# Altium footprint library S3B-XH-A(LF)(SN).PcbLib: 1 footprints
Each footprint in its own frame and in the unit in brackets; x right, y up, seen from the top. Pads: shape width x height; smd on the part's side, far side on the other; paste and mask are expansions set on the pad; w line width, h text height; cw(c..) or ccw(c..) is an arc to the next point about the centre after c.
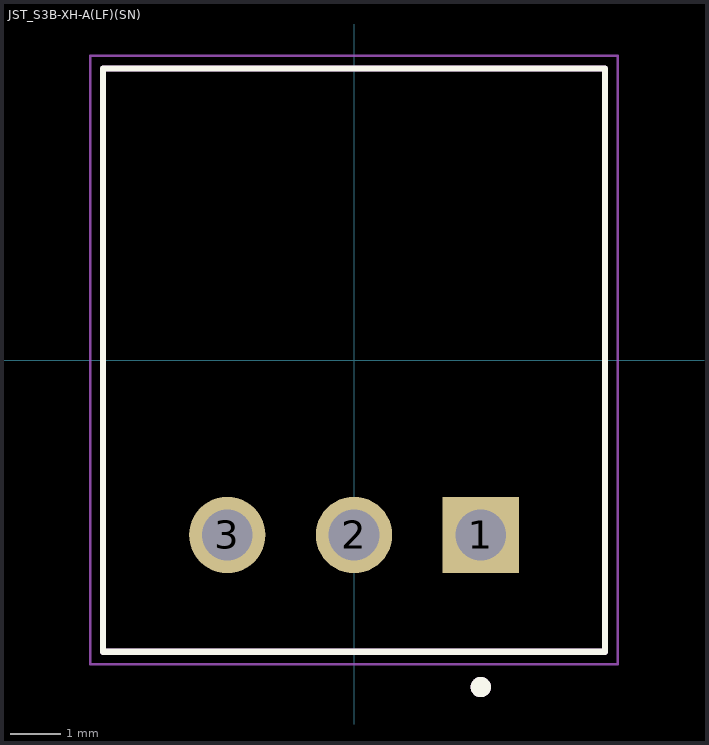
[diagram p0: the footprint, top view; thin cyan lines are the x and y axes]

## JST_S3B-XH-A(LF)(SN) [mm]
pads (3):
  rect 1.508x1.508 hole 1: 1(2.5,-3.45)
  round 1.508 hole 1: 2(0,-3.45) 3(-2.5,-3.45)
Top Overlay:
  circle w0.2: c2.5,-6.45 r0.1
  lines w0.127: -4.95,-5.75 4.95,-5.75 4.95,5.75 -4.95,5.75 -4.95,-5.75
Mechanical 13:
  circle w0.2: c2.5,-6.45 r0.1
  lines w0.127: -4.95,-5.75 4.95,-5.75 4.95,5.75 -4.95,5.75 -4.95,-5.75
Mechanical 15:
  lines w0.05: -5.2,-6 5.2,-6 5.2,6 -5.2,6 -5.2,-6
3D body "step_temp.STEP": height 6.15, standoff -3.4, extent -4.95,-5.75 4.95,5.75